# Altium schematic symbol library USBLC6-4SC6.SchLib: 1 symbol
Pins are listed as number, name and electrical type; pins without a type are passive.

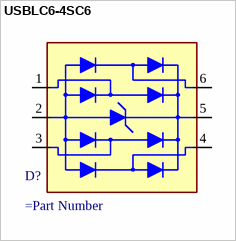
[diagram p0: symbol USBLC6-4SC6]

## USBLC6-4SC6
designator D?
=Description
pins: 1 IO1, 2 GND (power), 3 IO2, 4 IO3, 5 VBUS (power), 6 IO4